# EAGLE library part PRTR5V0U4AD (library nxp_60_1_1)
ESD protection AAL Eindhoven MK
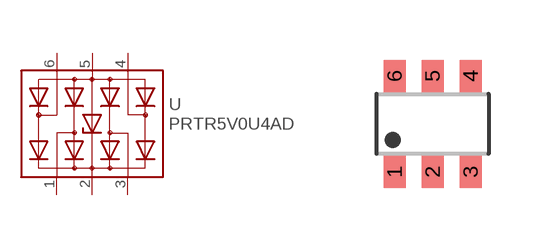
[diagram p3: symbol with the pads of SOT457; footprint SOT457]

Designator prefix U

## PRTR5V0U4AD (FARNELL: 1757868)  [SOT457]
1  ESD1  pas
2  VCC  pwr
3  ESD2  pas
4  ESD3  pas
5  GND  pwr
6  ESD4  pas

## Footprint SOT457 (pad centres in mm)
SOT457 TSOP6: Plastic surface-mounted package; 6 lead JEIDA: SC73 A.K.A. SOT23-6
smd 0.55 x 0.8: 1 -0.95,-1.2; 2 0,-1.2; 3 0.95,-1.2; 4 0.95,1.2; 5 0,1.2; 6 -0.95,1.2